# EAGLE library part 5569262-1 (library RJ45_2x4)
Conn RJ-45 F 64 POS 2.54mm Solder RA Thru-Hole 64 Terminal 8 Port Cat 5 Check prices <https://pricing.snapeda.com/parts/5569262-1/TE%20Connectivity/view-part?ref=eda>
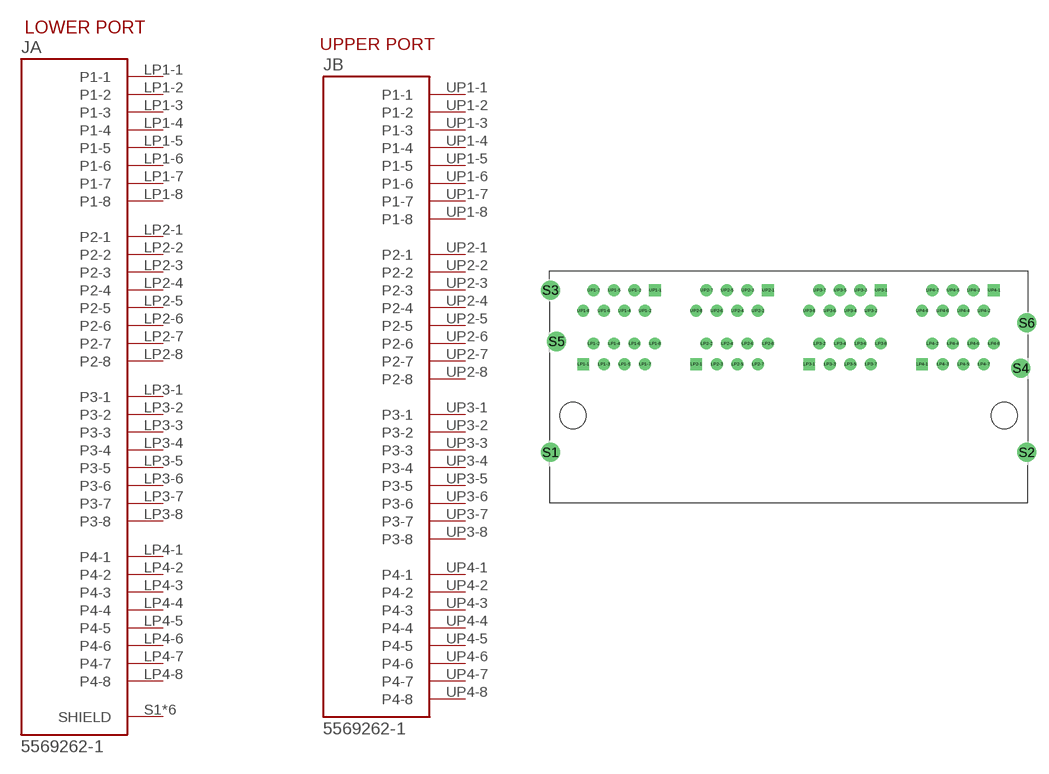
[diagram p0: symbol with the pads of TE_5569262-1; footprint TE_5569262-1]

Designator prefix J; gates A=5569262-1_SECTION1 B=5569262-1_SECTION2

## 5569262-1 (AVAILABILITY: Good; CENTERLINE_PITCH: 1.02 mm[.04 in]; COMMENT: 5569262-1; DESCRIPTION: Conn RJ-45 F 64 POS 2.54mm Solder RA Thru-Hole 64 Terminal 8 Port Cat 5 Tray; EU_ROHS_COMPLIANCE: Compliant; MF: TE Connectivity; MP: 5569262-1; NUMBER_OF_POSITIONS: 8; PACKAGE: None; PRICE: None; PURCHASE-URL: https://pricing.snapeda.com/search/part/5569262-1/?ref=eda)  [TE_5569262-1]
LP1-1  A:P1-1  pas
LP1-2  A:P1-2  pas
LP1-3  A:P1-3  pas
LP1-4  A:P1-4  pas
LP1-5  A:P1-5  pas
LP1-6  A:P1-6  pas
LP1-7  A:P1-7  pas
LP1-8  A:P1-8  pas
LP2-1  A:P2-1  pas
LP2-2  A:P2-2  pas
LP2-3  A:P2-3  pas
LP2-4  A:P2-4  pas
LP2-5  A:P2-5  pas
LP2-6  A:P2-6  pas
LP2-7  A:P2-7  pas
LP2-8  A:P2-8  pas
LP3-1  A:P3-1  pas
LP3-2  A:P3-2  pas
LP3-3  A:P3-3  pas
LP3-4  A:P3-4  pas
LP3-5  A:P3-5  pas
LP3-6  A:P3-6  pas
LP3-7  A:P3-7  pas
LP3-8  A:P3-8  pas
LP4-1  A:P4-1  pas
LP4-2  A:P4-2  pas
LP4-3  A:P4-3  pas
LP4-4  A:P4-4  pas
LP4-5  A:P4-5  pas
LP4-6  A:P4-6  pas
LP4-7  A:P4-7  pas
LP4-8  A:P4-8  pas
S1  A:SHIELD  pas
S2  A:SHIELD  pas
S3  A:SHIELD  pas
S4  A:SHIELD  pas
S5  A:SHIELD  pas
S6  A:SHIELD  pas
UP1-1  B:P1-1  pas
UP1-2  B:P1-2  pas
UP1-3  B:P1-3  pas
UP1-4  B:P1-4  pas
UP1-5  B:P1-5  pas
UP1-6  B:P1-6  pas
UP1-7  B:P1-7  pas
UP1-8  B:P1-8  pas
UP2-1  B:P2-1  pas
UP2-2  B:P2-2  pas
UP2-3  B:P2-3  pas
UP2-4  B:P2-4  pas
UP2-5  B:P2-5  pas
UP2-6  B:P2-6  pas
UP2-7  B:P2-7  pas
UP2-8  B:P2-8  pas
UP3-1  B:P3-1  pas
UP3-2  B:P3-2  pas
UP3-3  B:P3-3  pas
UP3-4  B:P3-4  pas
UP3-5  B:P3-5  pas
UP3-6  B:P3-6  pas
UP3-7  B:P3-7  pas
UP3-8  B:P3-8  pas
UP4-1  B:P4-1  pas
UP4-2  B:P4-2  pas
UP4-3  B:P4-3  pas
UP4-4  B:P4-4  pas
UP4-5  B:P4-5  pas
UP4-6  B:P4-6  pas
UP4-7  B:P4-7  pas
UP4-8  B:P4-8  pas

## Footprint TE_5569262-1 (pad centres in mm)
drill 0.97 square: LP1-1 0,0; LP2-1 13.97,0; LP3-1 27.94,0; LP4-1 41.91,0; UP1-1 8.89,9.14; UP2-1 22.86,9.14; UP3-1 36.83,9.14; UP4-1 50.8,9.14
drill 0.97: LP1-2 1.27,2.54; LP1-3 2.54,0; LP1-4 3.81,2.54; LP1-5 5.08,0; LP1-6 6.35,2.54; LP1-7 7.62,0; LP1-8 8.89,2.54; LP2-2 15.24,2.54; LP2-3 16.51,0; LP2-4 17.78,2.54; LP2-5 19.05,0; LP2-6 20.32,2.54; LP2-7 21.59,0; LP2-8 22.86,2.54; LP3-2 29.21,2.54; LP3-3 30.48,0; LP3-4 31.75,2.54; LP3-5 33.02,0; LP3-6 34.29,2.54; LP3-7 35.56,0; LP3-8 36.83,2.54; LP4-2 43.18,2.54; LP4-3 44.45,0; LP4-4 45.72,2.54; LP4-5 46.99,0; LP4-6 48.26,2.54; LP4-7 49.53,0; LP4-8 50.8,2.54; UP1-2 7.62,6.6; UP1-3 6.35,9.14; UP1-4 5.08,6.6; UP1-5 3.81,9.14; UP1-6 2.54,6.6; UP1-7 1.27,9.14; UP1-8 0,6.6; UP2-2 21.59,6.6; UP2-3 20.32,9.14; UP2-4 19.05,6.6; UP2-5 17.78,9.14; UP2-6 16.51,6.6; UP2-7 15.24,9.14; UP2-8 13.97,6.6; UP3-2 35.56,6.6; UP3-3 34.29,9.14; UP3-4 33.02,6.6; UP3-5 31.75,9.14; UP3-6 30.48,6.6; UP3-7 29.21,9.14; UP3-8 27.94,6.6; UP4-2 49.53,6.6; UP4-3 48.26,9.14; UP4-4 46.99,6.6; UP4-5 45.72,9.14; UP4-6 44.45,6.6; UP4-7 43.18,9.14; UP4-8 41.91,6.6
drill 1.57: S1 -4.06,-10.92; S2 54.87,-10.92; S3 -4.06,9.14; S4 54.11,-0.51; S5 -3.3,2.79; S6 54.87,5.08
hole 3.25 at -1.27,-6.35
hole 3.25 at 52.08,-6.35